# EAGLE library part PCF8574 (library debauer_ics)
Remote 8-Bit I/O Expander for I²C Bus
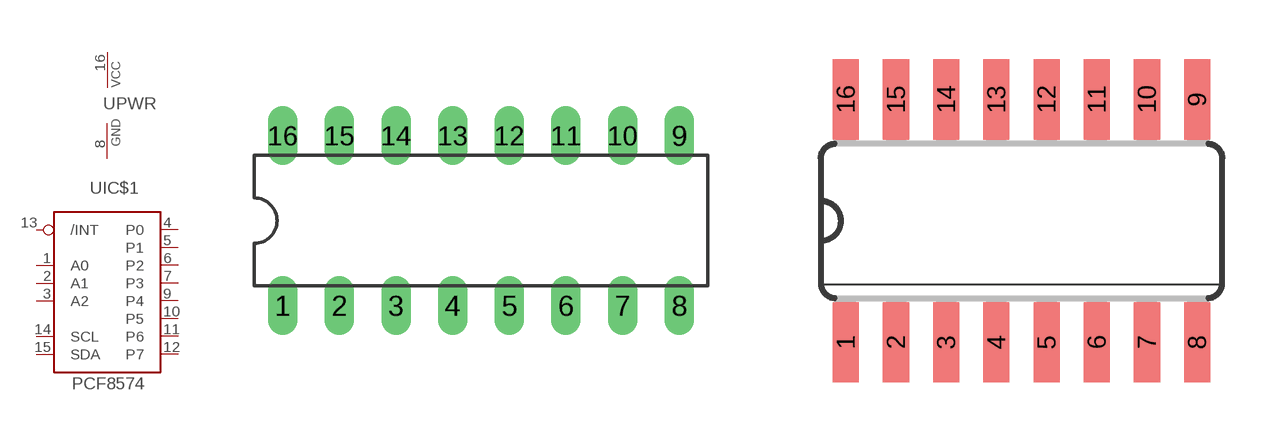
[diagram p49: symbol with the pads of DIL16; footprints DIL16, SO16]

Designator prefix -; gates IC$1=PCF8574 PWR=PWRN

## PCF8574P  [DIL16]
1  IC$1:A0  in
2  IC$1:A1  in
3  IC$1:A2  in
4  IC$1:P0
5  IC$1:P1
6  IC$1:P2
7  IC$1:P3
8  PWR:GND  pwr
9  IC$1:P4
10  IC$1:P5
11  IC$1:P6
12  IC$1:P7
13  IC$1:/INT  out
14  IC$1:SCL  in
15  IC$1:SDA
16  PWR:VCC  pwr

## PCF8574AP  [DIL16]
Pads as for DIL16

## PCF8574T  [SO16]
Pads as for DIL16

## PCF8574AT  [SO16]
Pads as for DIL16

## Footprint DIL16 (pad centres in mm)
drill 0.813 long: 1 -8.89,-3.81; 2 -6.35,-3.81; 3 -3.81,-3.81; 4 -1.27,-3.81; 5 1.27,-3.81; 6 3.81,-3.81; 7 6.35,-3.81; 8 8.89,-3.81; 9 8.89,3.81; 10 6.35,3.81; 11 3.81,3.81; 12 1.27,3.81; 13 -1.27,3.81; 14 -3.81,3.81; 15 -6.35,3.81; 16 -8.89,3.81

## Footprint SO16 (pad centres in mm)
smd 0.66 x 2.032: 1 -4.445,-3.073; 2 -3.175,-3.073; 3 -1.905,-3.073; 4 -0.635,-3.073; 5 0.635,-3.073; 6 1.905,-3.073; 7 3.175,-3.073; 8 4.445,-3.073; 9 4.445,3.073; 10 3.175,3.073; 11 1.905,3.073; 12 0.635,3.073; 13 -0.635,3.073; 14 -1.905,3.073; 15 -3.175,3.073; 16 -4.445,3.073